# Altium integrated library WE-PD (rev22a).IntLib: 359 symbols (part 1 of 6)
Pins are listed as number, name and electrical type; pins without a type are passive.

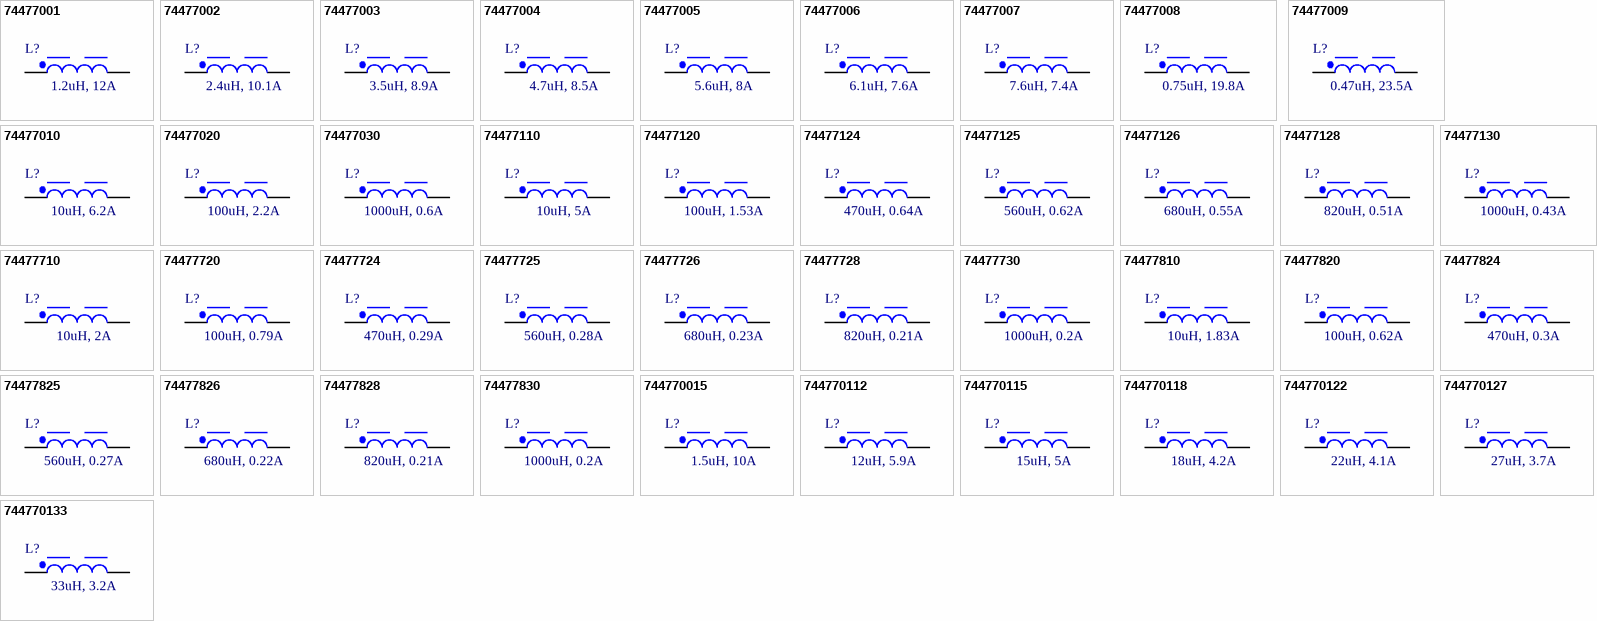
[diagram p0: symbols 74477001 to 744770133]

## 74477001
designator L?, comment 1.2uH, 12A
WE-PD SMT Power Inductor, size 1280, 1.2uH, 12A, 7mOhm; Manufacturer: Wurth Elektronik; Manufacturer Part Number: 74477001; Self Resonant Frequency: 45MHz; DC Resistance typ.: 5mOhm; Saturation Current: 16.6A; Type: Standard; ComponentLink1Description: Manufacturer; ComponentLink1URL: http://www.we-online.de; ComponentLink2Description: Datasheet; ComponentLink2URL: https://www.we-online.com/catalog/datasheet/74477001.pdf; Mounting Technology: SMT; Operating Temperature: -40 to +125degC; Packaging: Tape and Reel; DC Resistance max.: 7mOhm; Inductance: 1.2uH; Rated Current: 12A; Size: 1280; Height: 8mm; Length: 12mm; Width: 12mm
footprint WE-PD_1280
pins: 1, 2

## 74477002
designator L?, comment 2.4uH, 10.1A
WE-PD SMT Power Inductor, size 1280, 2.4uH, 10.1A, 12mOhm; Manufacturer: Wurth Elektronik; Manufacturer Part Number: 74477002; Self Resonant Frequency: 41MHz; DC Resistance typ.: 9mOhm; Saturation Current: 14.3A; Type: Standard; ComponentLink1Description: Manufacturer; ComponentLink1URL: http://www.we-online.de; ComponentLink2Description: Datasheet; ComponentLink2URL: https://www.we-online.com/catalog/datasheet/74477002.pdf; Mounting Technology: SMT; Operating Temperature: -40 to +125degC; Packaging: Tape and Reel; DC Resistance max.: 12mOhm; Inductance: 2.4uH; Rated Current: 10.1A; Size: 1280; Height: 8mm; Length: 12mm; Width: 12mm
footprint WE-PD_1280
pins: 1, 2

## 74477003
designator L?, comment 3.5uH, 8.9A
WE-PD SMT Power Inductor, size 1280, 3.5uH, 8.9A, 14mOhm; Manufacturer: Wurth Elektronik; Manufacturer Part Number: 74477003; Self Resonant Frequency: 37.5MHz; DC Resistance typ.: 11mOhm; Saturation Current: 9.6A; Type: Standard; ComponentLink1Description: Manufacturer; ComponentLink1URL: http://www.we-online.de; ComponentLink2Description: Datasheet; ComponentLink2URL: https://www.we-online.com/catalog/datasheet/74477003.pdf; Mounting Technology: SMT; Operating Temperature: -40 to +125degC; Packaging: Tape and Reel; DC Resistance max.: 14mOhm; Inductance: 3.5uH; Rated Current: 8.9A; Size: 1280; Height: 8mm; Length: 12mm; Width: 12mm
footprint WE-PD_1280
pins: 1, 2

## 74477004
designator L?, comment 4.7uH, 8.5A
WE-PD SMT Power Inductor, size 1280, 4.7uH, 8.5A, 16mOhm; Manufacturer: Wurth Elektronik; Manufacturer Part Number: 74477004; Self Resonant Frequency: 31.2MHz; DC Resistance typ.: 12mOhm; Saturation Current: 9.3A; Type: Standard; ComponentLink1Description: Manufacturer; ComponentLink1URL: http://www.we-online.de; ComponentLink2Description: Datasheet; ComponentLink2URL: https://www.we-online.com/catalog/datasheet/74477004.pdf; Mounting Technology: SMT; Operating Temperature: -40 to +125degC; Packaging: Tape and Reel; DC Resistance max.: 16mOhm; Inductance: 4.7uH; Rated Current: 8.5A; Size: 1280; Height: 8mm; Length: 12mm; Width: 12mm
footprint WE-PD_1280
pins: 1, 2

## 74477005
designator L?, comment 5.6uH, 8A
WE-PD SMT Power Inductor, size 1280, 5.6uH, 8A, 17mOhm; Manufacturer: Wurth Elektronik; Manufacturer Part Number: 74477005; Self Resonant Frequency: 24MHz; DC Resistance typ.: 13mOhm; Saturation Current: 8.2A; Type: Standard; ComponentLink1Description: Manufacturer; ComponentLink1URL: http://www.we-online.de; ComponentLink2Description: Datasheet; ComponentLink2URL: https://www.we-online.com/catalog/datasheet/74477005.pdf; Mounting Technology: SMT; Operating Temperature: -40 to +125degC; Packaging: Tape and Reel; DC Resistance max.: 17mOhm; Inductance: 5.6uH; Rated Current: 8A; Size: 1280; Height: 8mm; Length: 12mm; Width: 12mm
footprint WE-PD_1280
pins: 1, 2

## 74477006
designator L?, comment 6.1uH, 7.6A
WE-PD SMT Power Inductor, size 1280, 6.1uH, 7.6A, 18mOhm; Manufacturer: Wurth Elektronik; Manufacturer Part Number: 74477006; Self Resonant Frequency: 25MHz; DC Resistance typ.: 15mOhm; Saturation Current: 8.6A; Type: Standard; ComponentLink1Description: Manufacturer; ComponentLink1URL: http://www.we-online.de; ComponentLink2Description: Datasheet; ComponentLink2URL: https://www.we-online.com/catalog/datasheet/74477006.pdf; Mounting Technology: SMT; Operating Temperature: -40 to +125degC; Packaging: Tape and Reel; DC Resistance max.: 18mOhm; Inductance: 6.1uH; Rated Current: 7.6A; Size: 1280; Height: 8mm; Length: 12mm; Width: 12mm
footprint WE-PD_1280
pins: 1, 2

## 74477007
designator L?, comment 7.6uH, 7.4A
WE-PD SMT Power Inductor, size 1280, 7.6uH, 7.4A, 20mOhm; Manufacturer: Wurth Elektronik; Manufacturer Part Number: 74477007; Self Resonant Frequency: 21.3MHz; DC Resistance typ.: 16mOhm; Saturation Current: 8A; Type: Standard; ComponentLink1Description: Manufacturer; ComponentLink1URL: http://www.we-online.de; ComponentLink2Description: Datasheet; ComponentLink2URL: https://www.we-online.com/catalog/datasheet/74477007.pdf; Mounting Technology: SMT; Operating Temperature: -40 to +125degC; Packaging: Tape and Reel; DC Resistance max.: 20mOhm; Inductance: 7.6uH; Rated Current: 7.4A; Size: 1280; Height: 8mm; Length: 12mm; Width: 12mm
footprint WE-PD_1280
pins: 1, 2

## 74477008
designator L?, comment 0.75uH, 19.8A
WE-PD SMT Power Inductor, size 1280, 0.75uH, 19.8A, 4mOhm; Manufacturer: Wurth Elektronik; Manufacturer Part Number: 74477008; Self Resonant Frequency: 110MHz; DC Resistance typ.: 3mOhm; Saturation Current: 21A; Type: Standard; ComponentLink1Description: Manufacturer; ComponentLink1URL: http://www.we-online.de; ComponentLink2Description: Datasheet; ComponentLink2URL: https://www.we-online.com/catalog/datasheet/74477008.pdf; Mounting Technology: SMT; Operating Temperature: -40 to +125degC; Packaging: Tape and Reel; DC Resistance max.: 4mOhm; Inductance: 0.75uH; Rated Current: 19.8A; Size: 1280; Height: 8mm; Length: 12mm; Width: 12mm
footprint WE-PD_1280
pins: 1, 2

## 74477009
designator L?, comment 0.47uH, 23.5A
WE-PD SMT Power Inductor, size 1280, 0.47uH, 23.5A, 3mOhm; Manufacturer: Wurth Elektronik; Manufacturer Part Number: 74477009; Self Resonant Frequency: 120MHz; DC Resistance typ.: 2.9mOhm; Saturation Current: 26.4A; Type: Standard; ComponentLink1Description: Manufacturer; ComponentLink1URL: http://www.we-online.de; ComponentLink2Description: Datasheet; ComponentLink2URL: https://www.we-online.com/catalog/datasheet/74477009.pdf; Mounting Technology: SMT; Operating Temperature: -40 to +125degC; Packaging: Tape and Reel; DC Resistance max.: 3mOhm; Inductance: 0.47uH; Rated Current: 23.5A; Size: 1280; Height: 8mm; Length: 12mm; Width: 12mm
footprint WE-PD_1280
pins: 1, 2

## 74477010
designator L?, comment 10uH, 6.2A
WE-PD SMT Power Inductor, size 1280, 10uH, 6.2A, 22mOhm; Manufacturer: Wurth Elektronik; Manufacturer Part Number: 74477010; Self Resonant Frequency: 18MHz; DC Resistance typ.: 19mOhm; Saturation Current: 6.6A; Type: Standard; ComponentLink1Description: Manufacturer; ComponentLink1URL: http://www.we-online.de; ComponentLink2Description: Datasheet; ComponentLink2URL: https://www.we-online.com/catalog/datasheet/74477010.pdf; Mounting Technology: SMT; Operating Temperature: -40 to +125degC; Packaging: Tape and Reel; DC Resistance max.: 22mOhm; Inductance: 10uH; Rated Current: 6.2A; Size: 1280; Height: 8mm; Length: 12mm; Width: 12mm
footprint WE-PD_1280
pins: 1, 2

## 74477020
designator L?, comment 100uH, 2.2A
WE-PD SMT Power Inductor, size 1280, 100uH, 2.2A, 220mOhm; Manufacturer: Wurth Elektronik; Manufacturer Part Number: 74477020; Self Resonant Frequency: 5.2MHz; DC Resistance typ.: 102mOhm; Saturation Current: 2.4A; Type: Standard; ComponentLink1Description: Manufacturer; ComponentLink1URL: http://www.we-online.de; ComponentLink2Description: Datasheet; ComponentLink2URL: https://www.we-online.com/catalog/datasheet/74477020.pdf; Mounting Technology: SMT; Operating Temperature: -40 to +125degC; Packaging: Tape and Reel; DC Resistance max.: 220mOhm; Inductance: 100uH; Rated Current: 2.2A; Size: 1280; Height: 8mm; Length: 12mm; Width: 12mm
footprint WE-PD_1280
pins: 1, 2

## 74477030
designator L?, comment 1000uH, 0.6A
WE-PD SMT Power Inductor, size 1280, 1000uH, 0.6A, 1820mOhm; Manufacturer: Wurth Elektronik; Manufacturer Part Number: 74477030; Self Resonant Frequency: 1.8MHz; DC Resistance typ.: 1040mOhm; Saturation Current: 0.7A; Type: Standard; ComponentLink1Description: Manufacturer; ComponentLink1URL: http://www.we-online.de; ComponentLink2Description: Datasheet; ComponentLink2URL: https://www.we-online.com/catalog/datasheet/74477030.pdf; Mounting Technology: SMT; Operating Temperature: -40 to +125degC; Packaging: Tape and Reel; DC Resistance max.: 1820mOhm; Inductance: 1000uH; Rated Current: 0.6A; Size: 1280; Height: 8mm; Length: 12mm; Width: 12mm
footprint WE-PD_1280
pins: 1, 2

## 74477110
designator L?, comment 10uH, 5A
WE-PD SMT Power Inductor, size 1260, 10uH, 5A, 25mOhm; Manufacturer: Wurth Elektronik; Manufacturer Part Number: 74477110; Self Resonant Frequency: 21.5MHz; DC Resistance typ.: 18mOhm; Saturation Current: 5.5A; Type: Standard; ComponentLink1Description: Manufacturer; ComponentLink1URL: http://www.we-online.de; ComponentLink2Description: Datasheet; ComponentLink2URL: https://www.we-online.com/catalog/datasheet/74477110.pdf; Mounting Technology: SMT; Operating Temperature: -40 to +125degC; Packaging: Tape and Reel; DC Resistance max.: 25mOhm; Inductance: 10uH; Rated Current: 5A; Size: 1260; Height: 6mm; Length: 12mm; Width: 12mm
footprint WE-PD_1260
pins: 1, 2

## 74477120
designator L?, comment 100uH, 1.53A
WE-PD SMT Power Inductor, size 1260, 100uH, 1.53A, 160mOhm; Manufacturer: Wurth Elektronik; Manufacturer Part Number: 74477120; Self Resonant Frequency: 6.6MHz; DC Resistance typ.: 150mOhm; Saturation Current: 1.7A; Type: Standard; ComponentLink1Description: Manufacturer; ComponentLink1URL: http://www.we-online.de; ComponentLink2Description: Datasheet; ComponentLink2URL: https://www.we-online.com/catalog/datasheet/74477120.pdf; Mounting Technology: SMT; Operating Temperature: -40 to +125degC; Packaging: Tape and Reel; DC Resistance max.: 160mOhm; Inductance: 100uH; Rated Current: 1.53A; Size: 1260; Height: 6mm; Length: 12mm; Width: 12mm
footprint WE-PD_1260
pins: 1, 2

## 74477124
designator L?, comment 470uH, 0.64A
WE-PD SMT Power Inductor, size 1260, 470uH, 0.64A, 770mOhm; Manufacturer: Wurth Elektronik; Manufacturer Part Number: 74477124; Self Resonant Frequency: 2.6MHz; DC Resistance typ.: 660mOhm; Saturation Current: 0.8A; Type: Standard; ComponentLink1Description: Manufacturer; ComponentLink1URL: http://www.we-online.de; ComponentLink2Description: Datasheet; ComponentLink2URL: https://www.we-online.com/catalog/datasheet/74477124.pdf; Mounting Technology: SMT; Operating Temperature: -40 to +125degC; Packaging: Tape and Reel; DC Resistance max.: 770mOhm; Inductance: 470uH; Rated Current: 0.64A; Size: 1260; Height: 6mm; Length: 12mm; Width: 12mm
footprint WE-PD_1260
pins: 1, 2

## 74477125
designator L?, comment 560uH, 0.62A
WE-PD SMT Power Inductor, size 1260, 560uH, 0.62A, 860mOhm; Manufacturer: Wurth Elektronik; Manufacturer Part Number: 74477125; Self Resonant Frequency: 2.5MHz; DC Resistance typ.: 690mOhm; Saturation Current: 0.7A; Type: Standard; ComponentLink1Description: Manufacturer; ComponentLink1URL: http://www.we-online.de; ComponentLink2Description: Datasheet; ComponentLink2URL: https://www.we-online.com/catalog/datasheet/74477125.pdf; Mounting Technology: SMT; Operating Temperature: -40 to +125degC; Packaging: Tape and Reel; DC Resistance max.: 860mOhm; Inductance: 560uH; Rated Current: 0.62A; Size: 1260; Height: 6mm; Length: 12mm; Width: 12mm
footprint WE-PD_1260
pins: 1, 2

## 74477126
designator L?, comment 680uH, 0.55A
WE-PD SMT Power Inductor, size 1260, 680uH, 0.55A, 1200mOhm; Manufacturer: Wurth Elektronik; Manufacturer Part Number: 74477126; Self Resonant Frequency: 2.3MHz; DC Resistance typ.: 880mOhm; Saturation Current: 0.68A; Type: Standard; ComponentLink1Description: Manufacturer; ComponentLink1URL: http://www.we-online.de; ComponentLink2Description: Datasheet; ComponentLink2URL: https://www.we-online.com/catalog/datasheet/74477126.pdf; Mounting Technology: SMT; Operating Temperature: -40 to +125degC; Packaging: Tape and Reel; DC Resistance max.: 1200mOhm; Inductance: 680uH; Rated Current: 0.55A; Size: 1260; Height: 6mm; Length: 12mm; Width: 12mm
footprint WE-PD_1260
pins: 1, 2

## 74477128
designator L?, comment 820uH, 0.51A
WE-PD SMT Power Inductor, size 1260, 820uH, 0.51A, 1340mOhm; Manufacturer: Wurth Elektronik; Manufacturer Part Number: 74477128; Self Resonant Frequency: 2.1MHz; DC Resistance typ.: 1025mOhm; Saturation Current: 0.6A; Type: Standard; ComponentLink1Description: Manufacturer; ComponentLink1URL: http://www.we-online.de; ComponentLink2Description: Datasheet; ComponentLink2URL: https://www.we-online.com/catalog/datasheet/74477128.pdf; Mounting Technology: SMT; Operating Temperature: -40 to +125degC; Packaging: Tape and Reel; DC Resistance max.: 1340mOhm; Inductance: 820uH; Rated Current: 0.51A; Size: 1260; Height: 6mm; Length: 12mm; Width: 12mm
footprint WE-PD_1260
pins: 1, 2

## 74477130
designator L?, comment 1000uH, 0.43A
WE-PD SMT Power Inductor, size 1260, 1000uH, 0.43A, 1530mOhm; Manufacturer: Wurth Elektronik; Manufacturer Part Number: 74477130; Self Resonant Frequency: 1.9MHz; DC Resistance typ.: 1430mOhm; Saturation Current: 0.5A; Type: Standard; ComponentLink1Description: Manufacturer; ComponentLink1URL: http://www.we-online.de; ComponentLink2Description: Datasheet; ComponentLink2URL: https://www.we-online.com/catalog/datasheet/74477130.pdf; Mounting Technology: SMT; Operating Temperature: -40 to +125degC; Packaging: Tape and Reel; DC Resistance max.: 1530mOhm; Inductance: 1000uH; Rated Current: 0.43A; Size: 1260; Height: 6mm; Length: 12mm; Width: 12mm
footprint WE-PD_1260
pins: 1, 2

## 74477710
designator L?, comment 10uH, 2A
WE-PD SMT Power Inductor, size 7345, 10uH, 2A, 49mOhm; Manufacturer: Wurth Elektronik; Manufacturer Part Number: 74477710; Self Resonant Frequency: 26MHz; DC Resistance typ.: 45mOhm; Saturation Current: 2.6A; Type: Standard; ComponentLink1Description: Manufacturer; ComponentLink1URL: http://www.we-online.de; ComponentLink2Description: Datasheet; ComponentLink2URL: https://www.we-online.com/catalog/datasheet/74477710.pdf; Mounting Technology: SMT; Operating Temperature: -40 to +125degC; Packaging: Tape and Reel; DC Resistance max.: 49mOhm; Inductance: 10uH; Rated Current: 2A; Size: 7345; Height: 4.5mm; Length: 7.3mm; Width: 7.3mm
footprint WE-PD_7345
pins: 1, 2

## 74477720
designator L?, comment 100uH, 0.79A
WE-PD SMT Power Inductor, size 7345, 100uH, 0.79A, 610mOhm; Manufacturer: Wurth Elektronik; Manufacturer Part Number: 74477720; Self Resonant Frequency: 7.5MHz; DC Resistance typ.: 290mOhm; Saturation Current: 0.75A; Type: Standard; ComponentLink1Description: Manufacturer; ComponentLink1URL: http://www.we-online.de; ComponentLink2Description: Datasheet; ComponentLink2URL: https://www.we-online.com/catalog/datasheet/74477720.pdf; Mounting Technology: SMT; Operating Temperature: -40 to +125degC; Packaging: Tape and Reel; DC Resistance max.: 610mOhm; Inductance: 100uH; Rated Current: 0.79A; Size: 7345; Height: 4.5mm; Length: 7.3mm; Width: 7.3mm
footprint WE-PD_7345
pins: 1, 2

## 74477724
designator L?, comment 470uH, 0.29A
WE-PD SMT Power Inductor, size 7345, 470uH, 0.29A, 3010mOhm; Manufacturer: Wurth Elektronik; Manufacturer Part Number: 74477724; Self Resonant Frequency: 3.2MHz; DC Resistance typ.: 1600mOhm; Saturation Current: 0.34A; Type: Standard; ComponentLink1Description: Manufacturer; ComponentLink1URL: http://www.we-online.de; ComponentLink2Description: Datasheet; ComponentLink2URL: https://www.we-online.com/catalog/datasheet/74477724.pdf; Mounting Technology: SMT; Operating Temperature: -40 to +125degC; Packaging: Tape and Reel; DC Resistance max.: 3010mOhm; Inductance: 470uH; Rated Current: 0.29A; Size: 7345; Height: 4.5mm; Length: 7.3mm; Width: 7.3mm
footprint WE-PD_7345
pins: 1, 2

## 74477725
designator L?, comment 560uH, 0.28A
WE-PD SMT Power Inductor, size 7345, 560uH, 0.28A, 3620mOhm; Manufacturer: Wurth Elektronik; Manufacturer Part Number: 74477725; Self Resonant Frequency: 3MHz; DC Resistance typ.: 1720mOhm; Saturation Current: 0.31A; Type: Standard; ComponentLink1Description: Manufacturer; ComponentLink1URL: http://www.we-online.de; ComponentLink2Description: Datasheet; ComponentLink2URL: https://www.we-online.com/catalog/datasheet/74477725.pdf; Mounting Technology: SMT; Operating Temperature: -40 to +125degC; Packaging: Tape and Reel; DC Resistance max.: 3620mOhm; Inductance: 560uH; Rated Current: 0.28A; Size: 7345; Height: 4.5mm; Length: 7.3mm; Width: 7.3mm
footprint WE-PD_7345
pins: 1, 2

## 74477726
designator L?, comment 680uH, 0.23A
WE-PD SMT Power Inductor, size 7345, 680uH, 0.23A, 4630mOhm; Manufacturer: Wurth Elektronik; Manufacturer Part Number: 74477726; Self Resonant Frequency: 2.7MHz; DC Resistance typ.: 2600mOhm; Saturation Current: 0.28A; Type: Standard; ComponentLink1Description: Manufacturer; ComponentLink1URL: http://www.we-online.de; ComponentLink2Description: Datasheet; ComponentLink2URL: https://www.we-online.com/catalog/datasheet/74477726.pdf; Mounting Technology: SMT; Operating Temperature: -40 to +125degC; Packaging: Tape and Reel; DC Resistance max.: 4630mOhm; Inductance: 680uH; Rated Current: 0.23A; Size: 7345; Height: 4.5mm; Length: 7.3mm; Width: 7.3mm
footprint WE-PD_7345
pins: 1, 2

## 74477728
designator L?, comment 820uH, 0.21A
WE-PD SMT Power Inductor, size 7345, 820uH, 0.21A, 5200mOhm; Manufacturer: Wurth Elektronik; Manufacturer Part Number: 74477728; Self Resonant Frequency: 2.5MHz; DC Resistance typ.: 3000mOhm; Saturation Current: 0.26A; Type: Standard; ComponentLink1Description: Manufacturer; ComponentLink1URL: http://www.we-online.de; ComponentLink2Description: Datasheet; ComponentLink2URL: https://www.we-online.com/catalog/datasheet/74477728.pdf; Mounting Technology: SMT; Operating Temperature: -40 to +125degC; Packaging: Tape and Reel; DC Resistance max.: 5200mOhm; Inductance: 820uH; Rated Current: 0.21A; Size: 7345; Height: 4.5mm; Length: 7.3mm; Width: 7.3mm
footprint WE-PD_7345
pins: 1, 2

## 74477730
designator L?, comment 1000uH, 0.2A
WE-PD SMT Power Inductor, size 7345, 1000uH, 0.2A, 6000mOhm; Manufacturer: Wurth Elektronik; Manufacturer Part Number: 74477730; Self Resonant Frequency: 2.2MHz; DC Resistance typ.: 3270mOhm; Saturation Current: 0.25A; Type: Standard; ComponentLink1Description: Manufacturer; ComponentLink1URL: http://www.we-online.de; ComponentLink2Description: Datasheet; ComponentLink2URL: https://www.we-online.com/catalog/datasheet/74477730.pdf; Mounting Technology: SMT; Operating Temperature: -40 to +125degC; Packaging: Tape and Reel; DC Resistance max.: 6000mOhm; Inductance: 1000uH; Rated Current: 0.2A; Size: 7345; Height: 4.5mm; Length: 7.3mm; Width: 7.3mm
footprint WE-PD_7345
pins: 1, 2

## 74477810
designator L?, comment 10uH, 1.83A
WE-PD SMT Power Inductor, size 7332, 10uH, 1.83A, 72mOhm; Manufacturer: Wurth Elektronik; Manufacturer Part Number: 74477810; Self Resonant Frequency: 32MHz; DC Resistance typ.: 68mOhm; Saturation Current: 2.2A; Type: Standard; ComponentLink1Description: Manufacturer; ComponentLink1URL: http://www.we-online.de; ComponentLink2Description: Datasheet; ComponentLink2URL: https://www.we-online.com/catalog/datasheet/74477810.pdf; Mounting Technology: SMT; Operating Temperature: -40 to +125degC; Packaging: Tape and Reel; DC Resistance max.: 72mOhm; Inductance: 10uH; Rated Current: 1.83A; Size: 7332; Height: 3.2mm; Length: 7.3mm; Width: 7.3mm
footprint WE-PD_7332
pins: 1, 2

## 74477820
designator L?, comment 100uH, 0.62A
WE-PD SMT Power Inductor, size 7332, 100uH, 0.62A, 790mOhm; Manufacturer: Wurth Elektronik; Manufacturer Part Number: 74477820; Self Resonant Frequency: 9MHz; DC Resistance typ.: 580mOhm; Saturation Current: 0.76A; Type: Standard; ComponentLink1Description: Manufacturer; ComponentLink1URL: http://www.we-online.de; ComponentLink2Description: Datasheet; ComponentLink2URL: https://www.we-online.com/catalog/datasheet/74477820.pdf; Mounting Technology: SMT; Operating Temperature: -40 to +125degC; Packaging: Tape and Reel; DC Resistance max.: 790mOhm; Inductance: 100uH; Rated Current: 0.62A; Size: 7332; Height: 3.2mm; Length: 7.3mm; Width: 7.3mm
footprint WE-PD_7332
pins: 1, 2

## 74477824
designator L?, comment 470uH, 0.3A
WE-PD SMT Power Inductor, size 7332, 470uH, 0.3A, 4180mOhm; Manufacturer: Wurth Elektronik; Manufacturer Part Number: 74477824; Self Resonant Frequency: 4MHz; DC Resistance typ.: 2600mOhm; Saturation Current: 0.31A; Type: Standard; ComponentLink1Description: Manufacturer; ComponentLink1URL: http://www.we-online.de; ComponentLink2Description: Datasheet; ComponentLink2URL: https://www.we-online.com/catalog/datasheet/74477824.pdf; Mounting Technology: SMT; Operating Temperature: -40 to +125degC; Packaging: Tape and Reel; DC Resistance max.: 4180mOhm; Inductance: 470uH; Rated Current: 0.3A; Size: 7332; Height: 3.2mm; Length: 7.3mm; Width: 7.3mm
footprint WE-PD_7332
pins: 1, 2

## 74477825
designator L?, comment 560uH, 0.27A
WE-PD SMT Power Inductor, size 7332, 560uH, 0.27A, 4670mOhm; Manufacturer: Wurth Elektronik; Manufacturer Part Number: 74477825; Self Resonant Frequency: 3.7MHz; DC Resistance typ.: 3000mOhm; Saturation Current: 0.3A; Type: Standard; ComponentLink1Description: Manufacturer; ComponentLink1URL: http://www.we-online.de; ComponentLink2Description: Datasheet; ComponentLink2URL: https://www.we-online.com/catalog/datasheet/74477825.pdf; Mounting Technology: SMT; Operating Temperature: -40 to +125degC; Packaging: Tape and Reel; DC Resistance max.: 4670mOhm; Inductance: 560uH; Rated Current: 0.27A; Size: 7332; Height: 3.2mm; Length: 7.3mm; Width: 7.3mm
footprint WE-PD_7332
pins: 1, 2

## 74477826
designator L?, comment 680uH, 0.22A
WE-PD SMT Power Inductor, size 7332, 680uH, 0.22A, 5730mOhm; Manufacturer: Wurth Elektronik; Manufacturer Part Number: 74477826; Self Resonant Frequency: 3.4MHz; DC Resistance typ.: 4500mOhm; Type: Standard; ComponentLink1Description: Manufacturer; ComponentLink1URL: http://www.we-online.de; ComponentLink2Description: Datasheet; ComponentLink2URL: https://www.we-online.com/catalog/datasheet/74477826.pdf; Mounting Technology: SMT; Operating Temperature: -40 to +125degC; Packaging: Tape and Reel; DC Resistance max.: 5730mOhm; Inductance: 680uH; Saturation Current: 0.22A; Rated Current: 0.22A; Size: 7332; Height: 3.2mm; Length: 7.3mm; Width: 7.3mm
footprint WE-PD_7332
pins: 1, 2

## 74477828
designator L?, comment 820uH, 0.21A
WE-PD SMT Power Inductor, size 7332, 820uH, 0.21A, 6500mOhm; Manufacturer: Wurth Elektronik; Manufacturer Part Number: 74477828; Self Resonant Frequency: 2.8MHz; DC Resistance typ.: 5070mOhm; Saturation Current: 0.2A; Type: Standard; ComponentLink1Description: Manufacturer; ComponentLink1URL: http://www.we-online.de; ComponentLink2Description: Datasheet; ComponentLink2URL: https://www.we-online.com/catalog/datasheet/74477828.pdf; Mounting Technology: SMT; Operating Temperature: -40 to +125degC; Packaging: Tape and Reel; DC Resistance max.: 6500mOhm; Inductance: 820uH; Rated Current: 0.21A; Size: 7332; Height: 3.2mm; Length: 7.3mm; Width: 7.3mm
footprint WE-PD_7332
pins: 1, 2

## 74477830
designator L?, comment 1000uH, 0.2A
WE-PD SMT Power Inductor, size 7332, 1000uH, 0.2A, 9440mOhm; Manufacturer: Wurth Elektronik; Manufacturer Part Number: 74477830; Self Resonant Frequency: 2.6MHz; DC Resistance typ.: 5570mOhm; Saturation Current: 0.18A; Type: Standard; ComponentLink1Description: Manufacturer; ComponentLink1URL: http://www.we-online.de; ComponentLink2Description: Datasheet; ComponentLink2URL: https://www.we-online.com/catalog/datasheet/74477830.pdf; Mounting Technology: SMT; Operating Temperature: -40 to +125degC; Packaging: Tape and Reel; DC Resistance max.: 9440mOhm; Inductance: 1000uH; Rated Current: 0.2A; Size: 7332; Height: 3.2mm; Length: 7.3mm; Width: 7.3mm
footprint WE-PD_7332
pins: 1, 2

## 744770015
designator L?, comment 1.5uH, 10A
WE-PD SMT Power Inductor, size 1280, 1.5uH, 10A, 6mOhm; Manufacturer: Wurth Elektronik; Manufacturer Part Number: 744770015; Self Resonant Frequency: 42MHz; DC Resistance typ.: 5mOhm; Saturation Current: 12A; Type: Standard; ComponentLink1Description: Manufacturer; ComponentLink1URL: http://www.we-online.de; ComponentLink2Description: Datasheet; ComponentLink2URL: https://www.we-online.com/catalog/datasheet/744770015.pdf; Mounting Technology: SMT; Operating Temperature: -40 to +125degC; Packaging: Tape and Reel; DC Resistance max.: 6mOhm; Inductance: 1.5uH; Rated Current: 10A; Size: 1280; Height: 8mm; Length: 12mm; Width: 12mm
footprint WE-PD_1280
pins: 1, 2

## 744770112
designator L?, comment 12uH, 5.9A
WE-PD SMT Power Inductor, size 1280, 12uH, 5.9A, 24mOhm; Manufacturer: Wurth Elektronik; Manufacturer Part Number: 744770112; Self Resonant Frequency: 16MHz; DC Resistance typ.: 21mOhm; Saturation Current: 6.3A; Type: Standard; ComponentLink1Description: Manufacturer; ComponentLink1URL: http://www.we-online.de; ComponentLink2Description: Datasheet; ComponentLink2URL: https://www.we-online.com/catalog/datasheet/744770112.pdf; Mounting Technology: SMT; Operating Temperature: -40 to +125degC; Packaging: Tape and Reel; DC Resistance max.: 24mOhm; Inductance: 12uH; Rated Current: 5.9A; Size: 1280; Height: 8mm; Length: 12mm; Width: 12mm
footprint WE-PD_1280
pins: 1, 2

## 744770115
designator L?, comment 15uH, 5A
WE-PD SMT Power Inductor, size 1280, 15uH, 5A, 27mOhm; Manufacturer: Wurth Elektronik; Manufacturer Part Number: 744770115; Self Resonant Frequency: 14.5MHz; DC Resistance typ.: 24mOhm; Saturation Current: 6A; Type: Standard; ComponentLink1Description: Manufacturer; ComponentLink1URL: http://www.we-online.de; ComponentLink2Description: Datasheet; ComponentLink2URL: https://www.we-online.com/catalog/datasheet/744770115.pdf; Mounting Technology: SMT; Operating Temperature: -40 to +125degC; Packaging: Tape and Reel; DC Resistance max.: 27mOhm; Inductance: 15uH; Rated Current: 5A; Size: 1280; Height: 8mm; Length: 12mm; Width: 12mm
footprint WE-PD_1280
pins: 1, 2

## 744770118
designator L?, comment 18uH, 4.2A
WE-PD SMT Power Inductor, size 1280, 18uH, 4.2A, 39mOhm; Manufacturer: Wurth Elektronik; Manufacturer Part Number: 744770118; Self Resonant Frequency: 13.2MHz; DC Resistance typ.: 32mOhm; Saturation Current: 5.4A; Type: Standard; ComponentLink1Description: Manufacturer; ComponentLink1URL: http://www.we-online.de; ComponentLink2Description: Datasheet; ComponentLink2URL: https://www.we-online.com/catalog/datasheet/744770118.pdf; Mounting Technology: SMT; Operating Temperature: -40 to +125degC; Packaging: Tape and Reel; DC Resistance max.: 39mOhm; Inductance: 18uH; Rated Current: 4.2A; Size: 1280; Height: 8mm; Length: 12mm; Width: 12mm
footprint WE-PD_1280
pins: 1, 2

## 744770122
designator L?, comment 22uH, 4.1A
WE-PD SMT Power Inductor, size 1280, 22uH, 4.1A, 43mOhm; Manufacturer: Wurth Elektronik; Manufacturer Part Number: 744770122; Self Resonant Frequency: 12MHz; DC Resistance typ.: 33mOhm; Saturation Current: 5A; Type: Standard; ComponentLink1Description: Manufacturer; ComponentLink1URL: http://www.we-online.de; ComponentLink2Description: Datasheet; ComponentLink2URL: https://www.we-online.com/catalog/datasheet/744770122.pdf; Mounting Technology: SMT; Operating Temperature: -40 to +125degC; Packaging: Tape and Reel; DC Resistance max.: 43mOhm; Inductance: 22uH; Rated Current: 4.1A; Size: 1280; Height: 8mm; Length: 12mm; Width: 12mm
footprint WE-PD_1280
pins: 1, 2

## 744770127
designator L?, comment 27uH, 3.7A
WE-PD SMT Power Inductor, size 1280, 27uH, 3.7A, 46mOhm; Manufacturer: Wurth Elektronik; Manufacturer Part Number: 744770127; Self Resonant Frequency: 10MHz; DC Resistance typ.: 35mOhm; Saturation Current: 3.8A; Type: Standard; ComponentLink1Description: Manufacturer; ComponentLink1URL: http://www.we-online.de; ComponentLink2Description: Datasheet; ComponentLink2URL: https://www.we-online.com/catalog/datasheet/744770127.pdf; Mounting Technology: SMT; Operating Temperature: -40 to +125degC; Packaging: Tape and Reel; DC Resistance max.: 46mOhm; Inductance: 27uH; Rated Current: 3.7A; Size: 1280; Height: 8mm; Length: 12mm; Width: 12mm
footprint WE-PD_1280
pins: 1, 2

## 744770133
designator L?, comment 33uH, 3.2A
WE-PD SMT Power Inductor, size 1280, 33uH, 3.2A, 64mOhm; Manufacturer: Wurth Elektronik; Manufacturer Part Number: 744770133; Self Resonant Frequency: 8.5MHz; DC Resistance typ.: 47mOhm; Saturation Current: 3.6A; Type: Standard; ComponentLink1Description: Manufacturer; ComponentLink1URL: http://www.we-online.de; ComponentLink2Description: Datasheet; ComponentLink2URL: https://www.we-online.com/catalog/datasheet/744770133.pdf; Mounting Technology: SMT; Operating Temperature: -40 to +125degC; Packaging: Tape and Reel; DC Resistance max.: 64mOhm; Inductance: 33uH; Rated Current: 3.2A; Size: 1280; Height: 8mm; Length: 12mm; Width: 12mm
footprint WE-PD_1280
pins: 1, 2

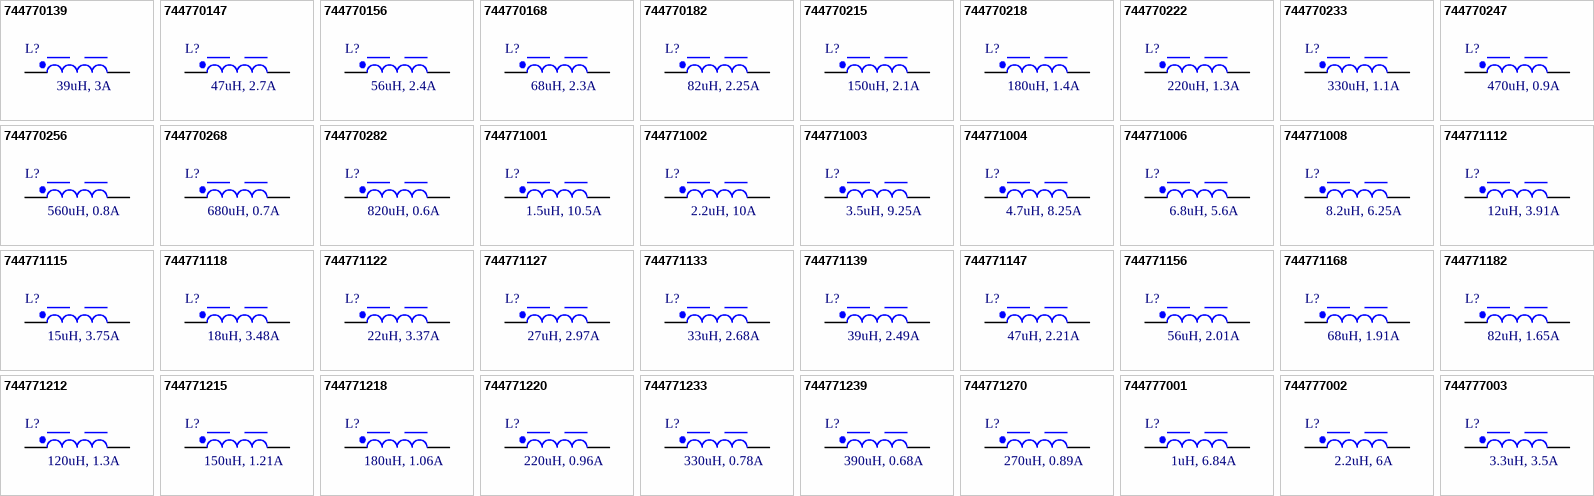
[diagram p1: symbols 744770139 to 744777003]

## 744770139
designator L?, comment 39uH, 3A
WE-PD SMT Power Inductor, size 1280, 39uH, 3A, 73mOhm; Manufacturer: Wurth Elektronik; Manufacturer Part Number: 744770139; Self Resonant Frequency: 8.2MHz; DC Resistance typ.: 53mOhm; Saturation Current: 3.5A; Type: Standard; ComponentLink1Description: Manufacturer; ComponentLink1URL: http://www.we-online.de; ComponentLink2Description: Datasheet; ComponentLink2URL: https://www.we-online.com/catalog/datasheet/744770139.pdf; Mounting Technology: SMT; Operating Temperature: -40 to +125degC; Packaging: Tape and Reel; DC Resistance max.: 73mOhm; Inductance: 39uH; Rated Current: 3A; Size: 1280; Height: 8mm; Length: 12mm; Width: 12mm
footprint WE-PD_1280
pins: 1, 2

## 744770147
designator L?, comment 47uH, 2.7A
WE-PD SMT Power Inductor, size 1280, 47uH, 2.7A, 100mOhm; Manufacturer: Wurth Elektronik; Manufacturer Part Number: 744770147; Self Resonant Frequency: 7.9MHz; DC Resistance typ.: 76mOhm; Saturation Current: 3A; Type: Standard; ComponentLink1Description: Manufacturer; ComponentLink1URL: http://www.we-online.de; ComponentLink2Description: Datasheet; ComponentLink2URL: https://www.we-online.com/catalog/datasheet/744770147.pdf; Mounting Technology: SMT; Operating Temperature: -40 to +125degC; Packaging: Tape and Reel; DC Resistance max.: 100mOhm; Inductance: 47uH; Rated Current: 2.7A; Size: 1280; Height: 8mm; Length: 12mm; Width: 12mm
footprint WE-PD_1280
pins: 1, 2

## 744770156
designator L?, comment 56uH, 2.4A
WE-PD SMT Power Inductor, size 1280, 56uH, 2.4A, 110mOhm; Manufacturer: Wurth Elektronik; Manufacturer Part Number: 744770156; Self Resonant Frequency: 7.1MHz; DC Resistance typ.: 85mOhm; Saturation Current: 2.9A; Type: Standard; ComponentLink1Description: Manufacturer; ComponentLink1URL: http://www.we-online.de; ComponentLink2Description: Datasheet; ComponentLink2URL: https://www.we-online.com/catalog/datasheet/744770156.pdf; Mounting Technology: SMT; Operating Temperature: -40 to +125degC; Packaging: Tape and Reel; DC Resistance max.: 110mOhm; Inductance: 56uH; Rated Current: 2.4A; Size: 1280; Height: 8mm; Length: 12mm; Width: 12mm
footprint WE-PD_1280
pins: 1, 2

## 744770168
designator L?, comment 68uH, 2.3A
WE-PD SMT Power Inductor, size 1280, 68uH, 2.3A, 140mOhm; Manufacturer: Wurth Elektronik; Manufacturer Part Number: 744770168; Self Resonant Frequency: 6.4MHz; DC Resistance typ.: 90mOhm; Saturation Current: 2.5A; Type: Standard; ComponentLink1Description: Manufacturer; ComponentLink1URL: http://www.we-online.de; ComponentLink2Description: Datasheet; ComponentLink2URL: https://www.we-online.com/catalog/datasheet/744770168.pdf; Mounting Technology: SMT; Operating Temperature: -40 to +125degC; Packaging: Tape and Reel; DC Resistance max.: 140mOhm; Inductance: 68uH; Rated Current: 2.3A; Size: 1280; Height: 8mm; Length: 12mm; Width: 12mm
footprint WE-PD_1280
pins: 1, 2

## 744770182
designator L?, comment 82uH, 2.25A
WE-PD SMT Power Inductor, size 1280, 82uH, 2.25A, 160mOhm; Manufacturer: Wurth Elektronik; Manufacturer Part Number: 744770182; Self Resonant Frequency: 3.5MHz; DC Resistance typ.: 86mOhm; Saturation Current: 2.45A; Type: Standard; ComponentLink1Description: Manufacturer; ComponentLink1URL: http://www.we-online.de; ComponentLink2Description: Datasheet; ComponentLink2URL: https://www.we-online.com/catalog/datasheet/744770182.pdf; Mounting Technology: SMT; Operating Temperature: -40 to +125degC; Packaging: Tape and Reel; DC Resistance max.: 160mOhm; Inductance: 82uH; Rated Current: 2.25A; Size: 1280; Height: 8mm; Length: 12mm; Width: 12mm
footprint WE-PD_1280
pins: 1, 2

## 744770215
designator L?, comment 150uH, 2.1A
WE-PD SMT Power Inductor, size 1280, 150uH, 2.1A, 280mOhm; Manufacturer: Wurth Elektronik; Manufacturer Part Number: 744770215; Self Resonant Frequency: 3MHz; DC Resistance typ.: 136mOhm; Saturation Current: 1.8A; Type: Standard; ComponentLink1Description: Manufacturer; ComponentLink1URL: http://www.we-online.de; ComponentLink2Description: Datasheet; ComponentLink2URL: https://www.we-online.com/catalog/datasheet/744770215.pdf; Mounting Technology: SMT; Operating Temperature: -40 to +125degC; Packaging: Tape and Reel; DC Resistance max.: 280mOhm; Inductance: 150uH; Rated Current: 2.1A; Size: 1280; Height: 8mm; Length: 12mm; Width: 12mm
footprint WE-PD_1280
pins: 1, 2

## 744770218
designator L?, comment 180uH, 1.4A
WE-PD SMT Power Inductor, size 1280, 180uH, 1.4A, 350mOhm; Manufacturer: Wurth Elektronik; Manufacturer Part Number: 744770218; Self Resonant Frequency: 4.2MHz; DC Resistance typ.: 188mOhm; Saturation Current: 1.6A; Type: Standard; ComponentLink1Description: Manufacturer; ComponentLink1URL: http://www.we-online.de; ComponentLink2Description: Datasheet; ComponentLink2URL: https://www.we-online.com/catalog/datasheet/744770218.pdf; Mounting Technology: SMT; Operating Temperature: -40 to +125degC; Packaging: Tape and Reel; DC Resistance max.: 350mOhm; Inductance: 180uH; Rated Current: 1.4A; Size: 1280; Height: 8mm; Length: 12mm; Width: 12mm
footprint WE-PD_1280
pins: 1, 2

## 744770222
designator L?, comment 220uH, 1.3A
WE-PD SMT Power Inductor, size 1280, 220uH, 1.3A, 390mOhm; Manufacturer: Wurth Elektronik; Manufacturer Part Number: 744770222; Self Resonant Frequency: 3.8MHz; DC Resistance typ.: 247mOhm; Saturation Current: 1.49A; Type: Standard; ComponentLink1Description: Manufacturer; ComponentLink1URL: http://www.we-online.de; ComponentLink2Description: Datasheet; ComponentLink2URL: https://www.we-online.com/catalog/datasheet/744770222.pdf; Mounting Technology: SMT; Operating Temperature: -40 to +125degC; Packaging: Tape and Reel; DC Resistance max.: 390mOhm; Inductance: 220uH; Rated Current: 1.3A; Size: 1280; Height: 8mm; Length: 12mm; Width: 12mm
footprint WE-PD_1280
pins: 1, 2

## 744770233
designator L?, comment 330uH, 1.1A
WE-PD SMT Power Inductor, size 1280, 330uH, 1.1A, 640mOhm; Manufacturer: Wurth Elektronik; Manufacturer Part Number: 744770233; Self Resonant Frequency: 3MHz; DC Resistance typ.: 349mOhm; Type: Standard; ComponentLink1Description: Manufacturer; ComponentLink1URL: http://www.we-online.de; ComponentLink2Description: Datasheet; ComponentLink2URL: https://www.we-online.com/catalog/datasheet/744770233.pdf; Mounting Technology: SMT; Operating Temperature: -40 to +125degC; Packaging: Tape and Reel; DC Resistance max.: 640mOhm; Inductance: 330uH; Saturation Current: 1.1A; Rated Current: 1.1A; Size: 1280; Height: 8mm; Length: 12mm; Width: 12mm
footprint WE-PD_1280
pins: 1, 2

## 744770247
designator L?, comment 470uH, 0.9A
WE-PD SMT Power Inductor, size 1280, 470uH, 0.9A, 980mOhm; Manufacturer: Wurth Elektronik; Manufacturer Part Number: 744770247; Self Resonant Frequency: 2.6MHz; DC Resistance typ.: 496mOhm; Type: Standard; ComponentLink1Description: Manufacturer; ComponentLink1URL: http://www.we-online.de; ComponentLink2Description: Datasheet; ComponentLink2URL: https://www.we-online.com/catalog/datasheet/744770247.pdf; Mounting Technology: SMT; Operating Temperature: -40 to +125degC; Packaging: Tape and Reel; DC Resistance max.: 980mOhm; Inductance: 470uH; Saturation Current: 0.9A; Rated Current: 0.9A; Size: 1280; Height: 8mm; Length: 12mm; Width: 12mm
footprint WE-PD_1280
pins: 1, 2

## 744770256
designator L?, comment 560uH, 0.8A
WE-PD SMT Power Inductor, size 1280, 560uH, 0.8A, 1070mOhm; Manufacturer: Wurth Elektronik; Manufacturer Part Number: 744770256; Self Resonant Frequency: 2.5MHz; DC Resistance typ.: 593mOhm; Saturation Current: 0.9A; Type: Standard; ComponentLink1Description: Manufacturer; ComponentLink1URL: http://www.we-online.de; ComponentLink2Description: Datasheet; ComponentLink2URL: https://www.we-online.com/catalog/datasheet/744770256.pdf; Mounting Technology: SMT; Operating Temperature: -40 to +125degC; Packaging: Tape and Reel; DC Resistance max.: 1070mOhm; Inductance: 560uH; Rated Current: 0.8A; Size: 1280; Height: 8mm; Length: 12mm; Width: 12mm
footprint WE-PD_1280
pins: 1, 2

## 744770268
designator L?, comment 680uH, 0.7A
WE-PD SMT Power Inductor, size 1280, 680uH, 0.7A, 1460mOhm; Manufacturer: Wurth Elektronik; Manufacturer Part Number: 744770268; Self Resonant Frequency: 2.2MHz; DC Resistance typ.: 840mOhm; Saturation Current: 0.8A; Type: Standard; ComponentLink1Description: Manufacturer; ComponentLink1URL: http://www.we-online.de; ComponentLink2Description: Datasheet; ComponentLink2URL: https://www.we-online.com/catalog/datasheet/744770268.pdf; Mounting Technology: SMT; Operating Temperature: -40 to +125degC; Packaging: Tape and Reel; DC Resistance max.: 1460mOhm; Inductance: 680uH; Rated Current: 0.7A; Size: 1280; Height: 8mm; Length: 12mm; Width: 12mm
footprint WE-PD_1280
pins: 1, 2

## 744770282
designator L?, comment 820uH, 0.6A
WE-PD SMT Power Inductor, size 1280, 820uH, 0.6A, 1640mOhm; Manufacturer: Wurth Elektronik; Manufacturer Part Number: 744770282; Self Resonant Frequency: 2MHz; DC Resistance typ.: 936mOhm; Saturation Current: 0.8A; Type: Standard; ComponentLink1Description: Manufacturer; ComponentLink1URL: http://www.we-online.de; ComponentLink2Description: Datasheet; ComponentLink2URL: https://www.we-online.com/catalog/datasheet/744770282.pdf; Mounting Technology: SMT; Operating Temperature: -40 to +125degC; Packaging: Tape and Reel; DC Resistance max.: 1640mOhm; Inductance: 820uH; Rated Current: 0.6A; Size: 1280; Height: 8mm; Length: 12mm; Width: 12mm
footprint WE-PD_1280
pins: 1, 2

## 744771001
designator L?, comment 1.5uH, 10.5A
WE-PD SMT Power Inductor, size 1260, 1.5uH, 10.5A, 6mOhm; Manufacturer: Wurth Elektronik; Manufacturer Part Number: 744771001; Self Resonant Frequency: 60MHz; DC Resistance typ.: 4mOhm; Saturation Current: 12.5A; Type: Standard; ComponentLink1Description: Manufacturer; ComponentLink1URL: http://www.we-online.de; ComponentLink2Description: Datasheet; ComponentLink2URL: https://www.we-online.com/catalog/datasheet/744771001.pdf; Mounting Technology: SMT; Operating Temperature: -40 to +125degC; Packaging: Tape and Reel; DC Resistance max.: 6mOhm; Inductance: 1.5uH; Rated Current: 10.5A; Size: 1260; Height: 6mm; Length: 12mm; Width: 12mm
footprint WE-PD_1260
pins: 1, 2

## 744771002
designator L?, comment 2.2uH, 10A
WE-PD SMT Power Inductor, size 1260, 2.2uH, 10A, 8mOhm; Manufacturer: Wurth Elektronik; Manufacturer Part Number: 744771002; Self Resonant Frequency: 50MHz; DC Resistance typ.: 5mOhm; Saturation Current: 11A; Type: Standard; ComponentLink1Description: Manufacturer; ComponentLink1URL: http://www.we-online.de; ComponentLink2Description: Datasheet; ComponentLink2URL: https://www.we-online.com/catalog/datasheet/744771002.pdf; Mounting Technology: SMT; Operating Temperature: -40 to +125degC; Packaging: Tape and Reel; DC Resistance max.: 8mOhm; Inductance: 2.2uH; Rated Current: 10A; Size: 1260; Height: 6mm; Length: 12mm; Width: 12mm
footprint WE-PD_1260
pins: 1, 2

## 744771003
designator L?, comment 3.5uH, 9.25A
WE-PD SMT Power Inductor, size 1260, 3.5uH, 9.25A, 8mOhm; Manufacturer: Wurth Elektronik; Manufacturer Part Number: 744771003; Self Resonant Frequency: 40MHz; DC Resistance typ.: 5mOhm; Saturation Current: 9A; Type: Standard; ComponentLink1Description: Manufacturer; ComponentLink1URL: http://www.we-online.de; ComponentLink2Description: Datasheet; ComponentLink2URL: https://www.we-online.com/catalog/datasheet/744771003.pdf; Mounting Technology: SMT; Operating Temperature: -40 to +125degC; Packaging: Tape and Reel; DC Resistance max.: 8mOhm; Inductance: 3.5uH; Rated Current: 9.25A; Size: 1260; Height: 6mm; Length: 12mm; Width: 12mm
footprint WE-PD_1260
pins: 1, 2

## 744771004
designator L?, comment 4.7uH, 8.25A
WE-PD SMT Power Inductor, size 1260, 4.7uH, 8.25A, 11mOhm; Manufacturer: Wurth Elektronik; Manufacturer Part Number: 744771004; Self Resonant Frequency: 35MHz; DC Resistance typ.: 8mOhm; Saturation Current: 8A; Type: Standard; ComponentLink1Description: Manufacturer; ComponentLink1URL: http://www.we-online.de; ComponentLink2Description: Datasheet; ComponentLink2URL: https://www.we-online.com/catalog/datasheet/744771004.pdf; Mounting Technology: SMT; Operating Temperature: -40 to +125degC; Packaging: Tape and Reel; DC Resistance max.: 11mOhm; Inductance: 4.7uH; Rated Current: 8.25A; Size: 1260; Height: 6mm; Length: 12mm; Width: 12mm
footprint WE-PD_1260
pins: 1, 2

## 744771006
designator L?, comment 6.8uH, 5.6A
WE-PD SMT Power Inductor, size 1260, 6.8uH, 5.6A, 22mOhm; Manufacturer: Wurth Elektronik; Manufacturer Part Number: 744771006; Self Resonant Frequency: 27MHz; DC Resistance typ.: 14mOhm; Saturation Current: 6A; Type: Standard; ComponentLink1Description: Manufacturer; ComponentLink1URL: http://www.we-online.de; ComponentLink2Description: Datasheet; ComponentLink2URL: https://www.we-online.com/catalog/datasheet/744771006.pdf; Mounting Technology: SMT; Operating Temperature: -40 to +125degC; Packaging: Tape and Reel; DC Resistance max.: 22mOhm; Inductance: 6.8uH; Rated Current: 5.6A; Size: 1260; Height: 6mm; Length: 12mm; Width: 12mm
footprint WE-PD_1260
pins: 1, 2

## 744771008
designator L?, comment 8.2uH, 6.25A
WE-PD SMT Power Inductor, size 1260, 8.2uH, 6.25A, 20mOhm; Manufacturer: Wurth Elektronik; Manufacturer Part Number: 744771008; Self Resonant Frequency: 25MHz; DC Resistance typ.: 14mOhm; Type: Standard; ComponentLink1Description: Manufacturer; ComponentLink1URL: http://www.we-online.de; ComponentLink2Description: Datasheet; ComponentLink2URL: https://www.we-online.com/catalog/datasheet/744771008.pdf; Mounting Technology: SMT; Operating Temperature: -40 to +125degC; Packaging: Tape and Reel; DC Resistance max.: 20mOhm; Inductance: 8.2uH; Saturation Current: 6.25A; Rated Current: 6.25A; Size: 1260; Height: 6mm; Length: 12mm; Width: 12mm
footprint WE-PD_1260
pins: 1, 2

## 744771112
designator L?, comment 12uH, 3.91A
WE-PD SMT Power Inductor, size 1260, 12uH, 3.91A, 27mOhm; Manufacturer: Wurth Elektronik; Manufacturer Part Number: 744771112; Self Resonant Frequency: 19.7MHz; DC Resistance typ.: 23mOhm; Saturation Current: 4.85A; Type: Standard; ComponentLink1Description: Manufacturer; ComponentLink1URL: http://www.we-online.de; ComponentLink2Description: Datasheet; ComponentLink2URL: https://www.we-online.com/catalog/datasheet/744771112.pdf; Mounting Technology: SMT; Operating Temperature: -40 to +125degC; Packaging: Tape and Reel; DC Resistance max.: 27mOhm; Inductance: 12uH; Rated Current: 3.91A; Size: 1260; Height: 6mm; Length: 12mm; Width: 12mm
footprint WE-PD_1260
pins: 1, 2

## 744771115
designator L?, comment 15uH, 3.75A
WE-PD SMT Power Inductor, size 1260, 15uH, 3.75A, 30mOhm; Manufacturer: Wurth Elektronik; Manufacturer Part Number: 744771115; Self Resonant Frequency: 16.6MHz; DC Resistance typ.: 25mOhm; Saturation Current: 4.55A; Type: Standard; ComponentLink1Description: Manufacturer; ComponentLink1URL: http://www.we-online.de; ComponentLink2Description: Datasheet; ComponentLink2URL: https://www.we-online.com/catalog/datasheet/744771115.pdf; Mounting Technology: SMT; Operating Temperature: -40 to +125degC; Packaging: Tape and Reel; DC Resistance max.: 30mOhm; Inductance: 15uH; Rated Current: 3.75A; Size: 1260; Height: 6mm; Length: 12mm; Width: 12mm
footprint WE-PD_1260
pins: 1, 2

## 744771118
designator L?, comment 18uH, 3.48A
WE-PD SMT Power Inductor, size 1260, 18uH, 3.48A, 34mOhm; Manufacturer: Wurth Elektronik; Manufacturer Part Number: 744771118; Self Resonant Frequency: 15MHz; DC Resistance typ.: 29mOhm; Saturation Current: 4.3A; Type: Standard; ComponentLink1Description: Manufacturer; ComponentLink1URL: http://www.we-online.de; ComponentLink2Description: Datasheet; ComponentLink2URL: https://www.we-online.com/catalog/datasheet/744771118.pdf; Mounting Technology: SMT; Operating Temperature: -40 to +125degC; Packaging: Tape and Reel; DC Resistance max.: 34mOhm; Inductance: 18uH; Rated Current: 3.48A; Size: 1260; Height: 6mm; Length: 12mm; Width: 12mm
footprint WE-PD_1260
pins: 1, 2

## 744771122
designator L?, comment 22uH, 3.37A
WE-PD SMT Power Inductor, size 1260, 22uH, 3.37A, 36mOhm; Manufacturer: Wurth Elektronik; Manufacturer Part Number: 744771122; Self Resonant Frequency: 13.5MHz; DC Resistance typ.: 31mOhm; Saturation Current: 3.77A; Type: Standard; ComponentLink1Description: Manufacturer; ComponentLink1URL: http://www.we-online.de; ComponentLink2Description: Datasheet; ComponentLink2URL: https://www.we-online.com/catalog/datasheet/744771122.pdf; Mounting Technology: SMT; Operating Temperature: -40 to +125degC; Packaging: Tape and Reel; DC Resistance max.: 36mOhm; Inductance: 22uH; Rated Current: 3.37A; Size: 1260; Height: 6mm; Length: 12mm; Width: 12mm
footprint WE-PD_1260
pins: 1, 2

## 744771127
designator L?, comment 27uH, 2.97A
WE-PD SMT Power Inductor, size 1260, 27uH, 2.97A, 51mOhm; Manufacturer: Wurth Elektronik; Manufacturer Part Number: 744771127; Self Resonant Frequency: 12MHz; DC Resistance typ.: 40mOhm; Saturation Current: 3.55A; Type: Standard; ComponentLink1Description: Manufacturer; ComponentLink1URL: http://www.we-online.de; ComponentLink2Description: Datasheet; ComponentLink2URL: https://www.we-online.com/catalog/datasheet/744771127.pdf; Mounting Technology: SMT; Operating Temperature: -40 to +125degC; Packaging: Tape and Reel; DC Resistance max.: 51mOhm; Inductance: 27uH; Rated Current: 2.97A; Size: 1260; Height: 6mm; Length: 12mm; Width: 12mm
footprint WE-PD_1260
pins: 1, 2

## 744771133
designator L?, comment 33uH, 2.68A
WE-PD SMT Power Inductor, size 1260, 33uH, 2.68A, 57mOhm; Manufacturer: Wurth Elektronik; Manufacturer Part Number: 744771133; Self Resonant Frequency: 11MHz; DC Resistance typ.: 49mOhm; Saturation Current: 3A; Type: Standard; ComponentLink1Description: Manufacturer; ComponentLink1URL: http://www.we-online.de; ComponentLink2Description: Datasheet; ComponentLink2URL: https://www.we-online.com/catalog/datasheet/744771133.pdf; Mounting Technology: SMT; Operating Temperature: -40 to +125degC; Packaging: Tape and Reel; DC Resistance max.: 57mOhm; Inductance: 33uH; Rated Current: 2.68A; Size: 1260; Height: 6mm; Length: 12mm; Width: 12mm
footprint WE-PD_1260
pins: 1, 2

## 744771139
designator L?, comment 39uH, 2.49A
WE-PD SMT Power Inductor, size 1260, 39uH, 2.49A, 68mOhm; Manufacturer: Wurth Elektronik; Manufacturer Part Number: 744771139; Self Resonant Frequency: 10MHz; DC Resistance typ.: 57mOhm; Saturation Current: 2.74A; Type: Standard; ComponentLink1Description: Manufacturer; ComponentLink1URL: http://www.we-online.de; ComponentLink2Description: Datasheet; ComponentLink2URL: https://www.we-online.com/catalog/datasheet/744771139.pdf; Mounting Technology: SMT; Operating Temperature: -40 to +125degC; Packaging: Tape and Reel; DC Resistance max.: 68mOhm; Inductance: 39uH; Rated Current: 2.49A; Size: 1260; Height: 6mm; Length: 12mm; Width: 12mm
footprint WE-PD_1260
pins: 1, 2

## 744771147
designator L?, comment 47uH, 2.21A
WE-PD SMT Power Inductor, size 1260, 47uH, 2.21A, 75mOhm; Manufacturer: Wurth Elektronik; Manufacturer Part Number: 744771147; Self Resonant Frequency: 9.2MHz; DC Resistance typ.: 72mOhm; Saturation Current: 2.6A; Type: Standard; ComponentLink1Description: Manufacturer; ComponentLink1URL: http://www.we-online.de; ComponentLink2Description: Datasheet; ComponentLink2URL: https://www.we-online.com/catalog/datasheet/744771147.pdf; Mounting Technology: SMT; Operating Temperature: -40 to +125degC; Packaging: Tape and Reel; DC Resistance max.: 75mOhm; Inductance: 47uH; Rated Current: 2.21A; Size: 1260; Height: 6mm; Length: 12mm; Width: 12mm
footprint WE-PD_1260
pins: 1, 2

## 744771156
designator L?, comment 56uH, 2.01A
WE-PD SMT Power Inductor, size 1260, 56uH, 2.01A, 110mOhm; Manufacturer: Wurth Elektronik; Manufacturer Part Number: 744771156; Self Resonant Frequency: 8MHz; DC Resistance typ.: 87mOhm; Saturation Current: 2.35A; Type: Standard; ComponentLink1Description: Manufacturer; ComponentLink1URL: http://www.we-online.de; ComponentLink2Description: Datasheet; ComponentLink2URL: https://www.we-online.com/catalog/datasheet/744771156.pdf; Mounting Technology: SMT; Operating Temperature: -40 to +125degC; Packaging: Tape and Reel; DC Resistance max.: 110mOhm; Inductance: 56uH; Rated Current: 2.01A; Size: 1260; Height: 6mm; Length: 12mm; Width: 12mm
footprint WE-PD_1260
pins: 1, 2